# EAGLE library part 6529B (library commodore-plus4)
MOS 6529B Keyboard buffer chip
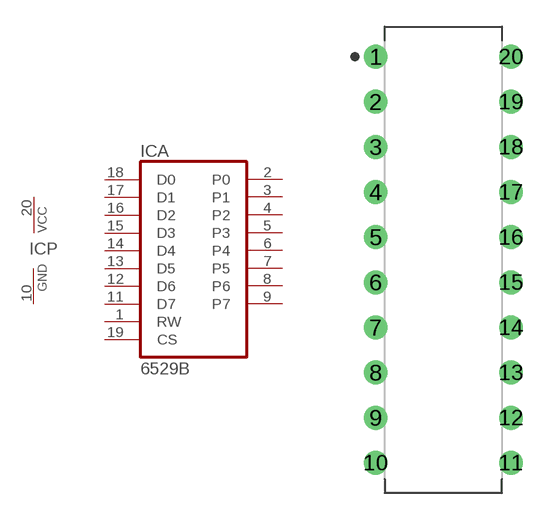
[diagram p1: symbol with the pads of DIP762W53P254L2624H508Q20B; footprint DIP762W53P254L2624H508Q20B]

Designator prefix IC; gates A=6529B P=PWRN-1

## 6529B  [DIP762W53P254L2624H508Q20B]
1  A:RW
2  A:P0
3  A:P1
4  A:P2
5  A:P3
6  A:P4
7  A:P5
8  A:P6
9  A:P7
10  P:GND  pwr
11  A:D7
12  A:D6
13  A:D5
14  A:D4
15  A:D3
16  A:D2
17  A:D1
18  A:D0
19  A:CS
20  P:VCC  pwr

## Footprint DIP762W53P254L2624H508Q20B (pad centres in mm)
20-DIP, 2.54 mm (0.10 in) pitch, 7.62 mm (0.30 in) span, 26.24 X 6.35 X 5.08 mm body 20-pin DIP package with 2.54 mm (0.10 in) pitch, 7.62 mm (0.30 in) span with body size 26.24 X 6.35 X 5.08 mm
drill 0.743 pad 1.343: 1 -3.81,11.43; 2 -3.81,8.89; 3 -3.81,6.35; 4 -3.81,3.81; 5 -3.81,1.27; 6 -3.81,-1.27; 7 -3.81,-3.81; 8 -3.81,-6.35; 9 -3.81,-8.89; 10 -3.81,-11.43; 11 3.81,-11.43; 12 3.81,-8.89; 13 3.81,-6.35; 14 3.81,-3.81; 15 3.81,-1.27; 16 3.81,1.27; 17 3.81,3.81; 18 3.81,6.35; 19 3.81,8.89; 20 3.81,11.43